# Altium schematic symbol library ADC_DAC.SchLib: 1 symbol
Pins are listed as number, name and electrical type; pins without a type are passive.

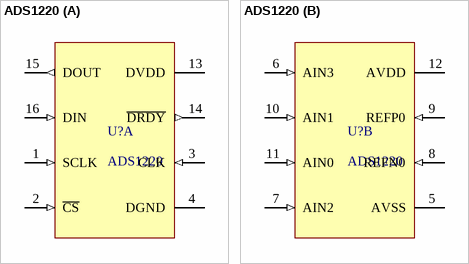
[diagram p0: symbol ADS1220]

## ADS1220
designator U?
ADS1220 4-Channel, 2-kSPS, Low-Power, 24-Bit ADC with Integrated PGA and Reference
footprint TSSOP-16
part A pins: 1 SCLK (in), 2 ~{CS} (in), 3 CLK (in), 4 DGND (power), 13 DVDD (power), 14 ~{DRDY} (out), 15 DOUT (out), 16 DIN (in)
part B pins: 5 AVSS (power), 6 AIN3 (in), 7 AIN2 (in), 8 REFN0 (in), 9 REFP0 (in), 10 AIN1 (in), 11 AIN0 (in), 12 AVDD (power)